# EAGLE library part FE06-1 (library DSX_Library)
FEMALE HEADER
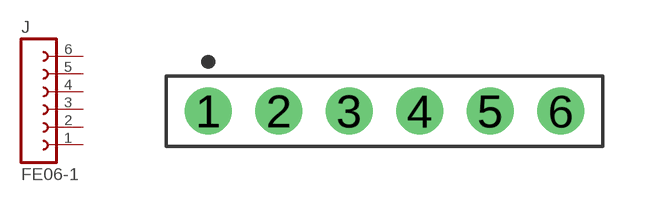
[diagram p3: symbol with the pads of HDRVR6W64P254_1X6_1574X254X850B; footprint HDRVR6W64P254_1X6_1574X254X850B]

Designator prefix J

## FE06-11X6-FEM-HEAD  [HDRVR6W64P254_1X6_1574X254X850B]
1  1  pas
2  2  pas
3  3  pas
4  4  pas
5  5  pas
6  6  pas

## Footprint HDRVR6W64P254_1X6_1574X254X850B (pad centres in mm)
Single-row, 6-pin Receptacle Header (Female) Straight, 2.54 mm (0.10 in) col pitch, 8.50 mm insulator length, 15.74 X 2.54 X 8.50 mm body Single-row (1X6), 6-pin Receptacle Header (Female) Straight package with 2.54 mm (0.10 in) col pitch, 0.64 mm lead width, 3.00 mm tail length and 8.50 mm insulator length with overall size 15.74 X 2.54 X 8.50 mm, pin pattern - clockwise from top left
drill 1.105 pad 1.705: 1 0,0; 2 2.54,0; 3 5.08,0; 4 7.62,0; 5 10.16,0; 6 12.7,0